# EAGLE library part RFD22301 (library RFDigital)
Bluetooth 4.0 Low Energy BLE RF Module RFD22301 With Built-In ARM Cortex M0 Microcontroller © 2013 RF Digital Corporation www.RFDigital.com
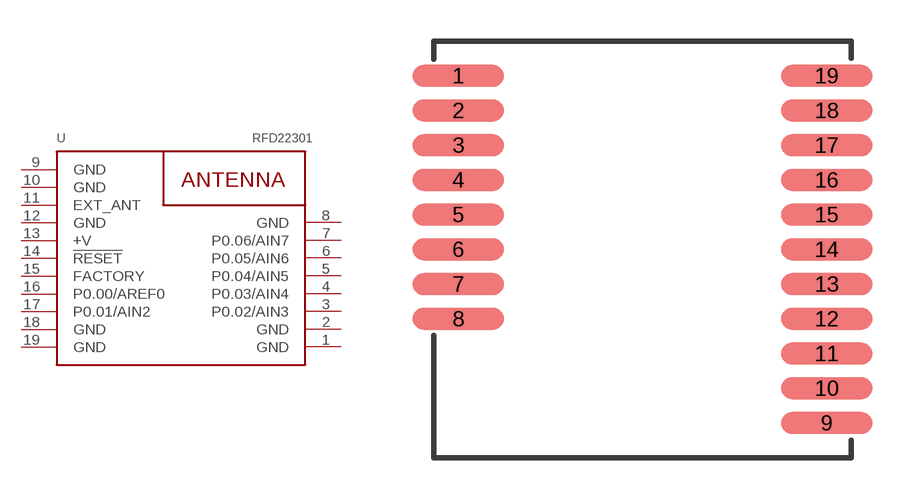
[diagram p1: symbol with the pads of RFD22301; footprint RFD22301]

Designator prefix -

## RFD22301  [RFD22301]
1  GND  pwr
2  GND  pwr
3  P0.02/AIN3
4  P0.03/AIN4
5  P0.04/AIN5
6  P0.05/AIN6
7  P0.06/AIN7
8  GND  pwr
9  GND  pwr
10  GND  pwr
11  EXT_ANT  pas
12  GND  pwr
13  +V  pwr
14  !RESET!  in
15  FACTORY  nc
16  P0.00/AREF0
17  P0.01/AIN2
18  GND  pwr
19  GND  pwr

## Footprint RFD22301 (pad centres in mm)
Bluetooth 4.0 Low Energy BLE RF Module RFD22301 With Built-In ARM Cortex M0 Microcontroller © 2013 RF Digital Corporation www.RFDigital.com
smd 3.353 x 0.813: 1 -6.375,5.08; 2 -6.375,3.81; 3 -6.375,2.54; 4 -6.375,1.27; 5 -6.375,0; 6 -6.375,-1.27; 7 -6.375,-2.54; 8 -6.375,-3.81; 9 7.087,-7.62; 10 7.087,-6.35; 11 7.087,-5.08; 12 7.087,-3.81; 13 7.087,-2.54; 14 7.087,-1.27; 15 7.087,0; 16 7.087,1.27; 17 7.087,2.54; 18 7.087,3.81; 19 7.087,5.08